# Altium schematic symbol library Passives.SchLib: 35 symbols
Pins are listed as number, name and electrical type; pins without a type are passive.

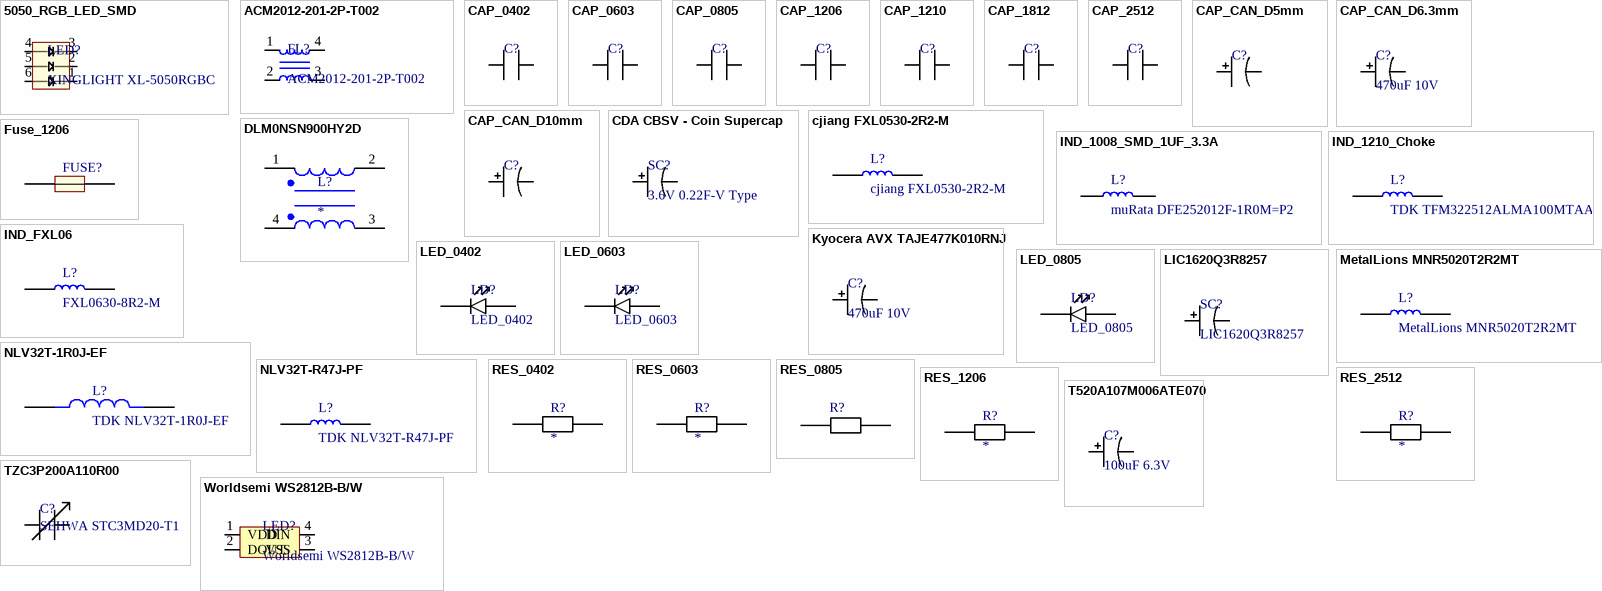
[diagram p0: symbols 5050_RGB_LED_SMD to Worldsemi WS2812B-B/W]

## 5050_RGB_LED_SMD
designator LED?, comment XINGLIGHT XL-5050RGBC
120° SMD5050-6P LED Indication - Discrete RoHS; val: XINGLIGHT XL-5050RGBC; note: *; sample link: https://www.lcsc.com/product-detail/C2843868.html?s_z=n_5050%2520led%2520rgb; unit price: $ 0.0531
footprint 5050_RGB_LED_SMD
pins: 1, 2, 3, 4, 5, 6

## ACM2012-201-2P-T002
designator FL?
2 Line Common Mode Choke Surface Mount 200 Ohms @ 100MHz 350mA DCR 250mOhm; val: ACM2012-201-2P-T002; note: *; sample link: https://www.lcsc.com/product-detail/C19972.html?s_z=n_ACM2012; unit price: $ 0.0806
footprint FIL_ACM2012-201-2P-T002
pins: 1, 2, 3, 4

## CAP_0402
designator C?
CAP_0402; note: any manufacturer
footprint CAP_0402 (Chip Capacitor, 2-Leads, Body 1,06x0,51mm, IPC Medium Density)
pins: 1, 2

## CAP_0603
designator C?  (value not drawn)
CAP_0603; note: any manufacturer; val: *
footprint CAP_0603 (Chip Capacitor, 2-Leads, Body 1,57x0,78mm, IPC Medium Density)
pins: 1, 2

## CAP_0805
designator C?  (value not drawn)
CAP_0805; note: any manufacturer; val: *
footprint CAP_0805 (Chip Capacitor, 2-Leads, Body 2,03x1,35mm, IPC Medium Density)
pins: 1, 2

## CAP_1206
designator C?  (value not drawn)
CAP_1206; note: any manufacturer; val: *
footprint CAP_1206 (Chip Capacitor, 2-Leads, Body 3,05x1,56mm, IPC Medium Density)
pins: 1, 2

## CAP_1210
designator C?  (value not drawn)
CAP_1210; note: any manufacturer; val: *
footprint CAP_1210 (Chip Capacitor, 2-Leads, Body 3,05x1,56mm, IPC Medium Density)
pins: 1, 2

## CAP_1812
designator C?  (value not drawn)
CAP_1812; note: any manufacturer; val: *
footprint CAP_1812 (Chip Capacitor, 2-Leads, Body 3,05x1,56mm, IPC Medium Density)
pins: 1, 2

## CAP_2512
designator C?  (value not drawn)
CAP_2512; note: any manufacturer; val: *
footprint CAP_2512 (Chip Capacitor, 2-Leads, Body 3,05x1,56mm, IPC Medium Density)
pins: 1, 2

## CAP_CAN_D5mm
designator C?, comment 10uf  (value not drawn)
SMD Can Capacitor; 5mm Diameter; note: any manufacturer; val: 10uf; sample link: https://www.lcsc.com/product-detail/C3357.html?s_z=n_10uF%2520SMD%2520Can%2520Capacitor%2520D5%2520RVT; unit price: $ 0.0283
footprint CAP_CAN_D5MM (Aluminum Electrolytic Capacitor, Body 5,40x5,40x5,50mm, IPC Low Density)
pins: 1, 2

## CAP_CAN_D6.3mm
designator C?, comment 470uF 10V
SMD Can Capacitor; 6.3mm Diameter; note: any manufacturer; val: 470uF 10V; sample link: https://www.lcsc.com/product-detail/C2977552.html; unit price: $ 0.0654
footprint CAP_CAN_D6.3MM
pins: 1, 2

## CAP_CAN_D10mm
designator C?, comment 47uf 100v  (value not drawn)
SMD Can Capacitor; 10mm Diameter; note: Original; val: 47uf 100v; sample link: https://www.lcsc.com/product-detail/Aluminum-Electrolytic-span-style-background-color-ff0-Capacitors-span-SMD_ROQANG-RVT2A470M1010_C335988.html; unit price: $ 0.0921
footprint CAP_CAN_D10mm (Aluminum Electrolytic Capacitor, Body 5,40x5,40x5,50mm, IPC Low Density)
pins: 1, 2

## CDA CBSV - Coin Supercap
designator SC?, comment 3.6V 0.22F-V Type
CDA CBSV Series Button/Coin Supercapacitor; val: 3.6V 0.22F-V Type; note: *; sample link: https://item.taobao.com/item.htm?id=783033798124&skuId=5349500677222&spm=a312a.7700824.w4004-25396071216.5.6b7dcd092iIvpZ; unit price: $ 0.022
footprint CDA CBSV - Coin Supercap - V Type
pins: 1, 2

## cjiang FXL0530-2R2-M
designator L?
FIXED IND 2.2uH 7A 29mΩ SMD,5.2x5.4mm; val: cjiang FXL0530-2R2-M; sample link: https://www.lcsc.com/product-detail/C177247.html?s_z=n_q_FXL0530-2R2-M&spm=wm.fly.bg.0.xh&lcsc_vid=QwBbXgVSRFJfV11VQANcX1JRFQdYVFIFEVMMBgICQlIxVlNeQlhcXlRRT1hYVDsOAxUeFF5JWBYZEEoKFBINSQcJGk4eFQsCAgIaSgADAwAHC0slQ1ZbUlVRWQkaCgg%3D; note: *; unit price: $ 0.2667
footprint IND_CD53 (Precision Wire Wound Inductor, 2-Leads, Body 4,50x4,00mm, IPC Medium Density)
pins: 1, 2

## DLM0NSN900HY2D
designator L?
2 Line Common Mode Choke Surface Mount 90 Ohms @ 100MHz 100mA DCR 5Ohm; val: DLM0NSN900HY2D; note: *; sample link: https://www.lcsc.com/product-detail/C882594.html; unit price: $ 0.0612
footprint FIL_DLM0NSN900HY2D
pins: 1, 2, 3, 4

## Fuse_1206
designator FUSE?
Fuse_1206; sample link: https://item.taobao.com/item.htm?abbucket=8&id=562837668942&ns=1&spm=a230r.1.14.1.30d440c1oWmyxt; note: https://item.taobao.com/item.htm?abbucket=8&id=562837668942&ns=1&spm=a230r.1.14.1.30d440c1oWmyxt
footprint FUSE_1206
pins: 1, 2

## IND_1008_SMD_1UF_3.3A
designator L?, comment muRata DFE252012F-1R0M=P2
3.3A 1uH 4.7A 40mΩ ±20% 1008 Fixed Inductors RoHS; val: muRata DFE252012F-1R0M=P2; note: *; sample link: https://www.lcsc.com/product-detail/C435392.html; unit price: $ 0.1775
footprint IND_1008
pins: 1, 2

## IND_1210_Choke
designator L?, comment TDK TFM322512ALMA100MTAA
Precision Wire Wound Inductor, 2-Leads, Body 4,50x4,00mm, IPC Medium Density; note: Original; val: TDK TFM322512ALMA100MTAA; sample link: https://www.lcsc.com/product-detail/C2047632.html; unit price: $ 0.7243
footprint IND_1210
pins: 1, 2

## IND_FXL06
designator L?, comment FXL0630-8R2-M
Precision Wire Wound Inductor, 2-Leads, Body 4,50x4,00mm, IPC Medium Density; note: original; val: FXL0630-8R2-M; sample link: https://www.lcsc.com/product-detail/span-style-background-color-ff0-Power-span-Inductors_cjiang-Changjiang-Microelectronics-Tech-FXL0630-8R2-M_C167222.html; unit price: $ 0.1695
footprint IND_FXL06 (Footprint not found)
pins: 1, 2

## Kyocera AVX TAJE477K010RNJ
designator C?, comment 470uF 10V
470uF ±10% 10V Tantalum Capacitors 500mΩ@100kHz CASE-E-7343-43(mm); note: Original; val: 470uF 10V; sample link: https://www.lcsc.com/product-detail/C7234.html; unit price: $ 1.4194
footprint Kyocera AVX TAJE477K010RNJ (470uF ±10% 10V Tantalum Capacitors 500mΩ@100kHz CASE-E-7343-43(mm))
pins: 1, 2

## LED_0402
designator LD?
footprint LED_0402 (Chip Capacitor, 2-Leads, Body 1,53x0,77mm, IPC Medium Density)
pins: 1, 2

## LED_0603
designator LD?
footprint LED_0603 (Chip Capacitor, 2-Leads, Body 1,53x0,77mm, IPC Medium Density)
pins: 1, 2

## LED_0805
designator LD?
footprint LED_0805
pins: 1, 2

## LIC1620Q3R8257
designator SC?
250 F (EDLC) Supercapacitor 3.8 V Radial, Can 50mOhm @ 1kHz 1000 Hrs @ 85°C; val: LIC1620Q3R8257; note: *; sample link: https://item.taobao.com/item.htm?_u=e2r4v2sjdebc&id=738986121672&skuId=5097180376418&spm=a1z09.2.0.0.75e02e8dnkHqom; unit price: $ 3.47
footprint LIC1620
pins: 1, 2

## MetalLions MNR5020T2R2MT
designator L?
2.9A 2.2uH ±20% 4A 32mΩ Magnetic Shielded Inductor SMD,5x5mm Fixed Inductors RoHS; val: MetalLions MNR5020T2R2MT; note: *; sample link: https://www.lcsc.com/product-detail/C18222052.html; unit price: $ 0.0525
footprint SMD,5x5mm (MetalLions MNR5020T2R2MT Inductor)
pins: 1, 2

## NLV32T-1R0J-EF
designator L?, comment TDK NLV32T-1R0J-EF
FIXED IND 1uH 400mA 700mΩ 1210; val: TDK NLV32T-1R0J-EF; note: *; sample link: https://www.lcsc.com/product-detail/C286755.html?s_z=n_q_NLV32T-1R0J-EF&spm=wm.fly.bg.0.xh&lcsc_vid=FVFdBVUFR1ULBQFWR1cKXlxXQwQPVFVUQFJaUFIARFkxVlNeR1JWU11UQFVXVTsOAxUeFF5JWBYZEEoKFBINSQcJGk4eFQsCAgIaSgADAwAHC0slRlBZUlJUWQkaCgg%3D; unit price: $ 0.0498
footprint INDM3225X240N
pins: 1, 2

## NLV32T-R47J-PF
designator L?, comment TDK NLV32T-R47J-PF
450mA 470nH 500mΩ Magnetic Shielded Inductor ±5% 1210 Fixed Inductors RoHS; note: Original; val: TDK NLV32T-R47J-PF; sample link: https://www.lcsc.com/product-detail/C89029.html?s_z=n_NLV32T-R47J-PF; unit price: $ 0.0653
footprint IND_1210
pins: 1, 2

## RES_0402
designator R?
RES_0402; note: any manufacturer; val: *
footprint RES_0402
pins: 1, 2

## RES_0603
designator R?
RES_0603; note: any manufacturer; val: *
footprint RES_0603
pins: 1, 2

## RES_0805
designator R?  (value not drawn)
RES_0805; note: any manufacturer; val: *
footprint RES_0805
pins: 1, 2

## RES_1206
designator R?
RES_1206; note: any manufacturer; val: *
footprint RES_1206
pins: 1, 2

## RES_2512
designator R?
RES_2512; note: any manufacturer; val: *
footprint RES_2512
pins: 1, 2

## T520A107M006ATE070
designator C?, comment 100uF 6.3V
100uF ±20% 6.3V Tantalum Capacitors 70mΩ@100kHz CASE-A-3216-18(mm); note: Original; val: 100uF 6.3V; sample link: https://www.lcsc.com/product-detail/C561794.html; unit price: $ 0.4636
footprint T520A107M006ATE070
pins: 1, 2

## TZC3P200A110R00
designator C?, comment SEHWA STC3MD20-T1
250@1MHz 5.8pF~20pF 0%~+50% 100V SMD,4.5x3.2mm Trimmers, Variable Capacitors RoHS; val: SEHWA STC3MD20-T1; sample link: https://www.lcsc.com/product-detail/C22468122.html; unit price: $ 0.4485
footprint SMD,4.5x3.2mm (300@1MHz 5pF~20pF 0%~+50% 100V SMD,4.5x3.2mm Trimmers, Variable Capacitors RoHS)
pins: 1, 2

## Worldsemi WS2812B-B/W
designator LED?
Intelligent control LED integrated light source; val: Worldsemi WS2812B-B/W; note: *; sample link: https://www.lcsc.com/product-detail/C114586.html?s_z=s_undefined_t_WS2812B&spm=wm.fly.bg.0.xh___wm.ssy.tc.1.tz&lcsc_vid=RAULBAcCRwJfVQVVFgVdUgVREQNXXlAEEwRbVVBTRAAxVlNeR1RZVlRVQFhbVTsOAxUeFF5JWBYZEEoKFBINSQcJGk4eFQsCAgIaSgADAwAHC0slQ1NdXlFXTlNADxALGw%3D%3D; price: $ 0.0981
footprint SMD5050 - WS2812B-B
pins: 1 VDD, 2 DOUT, 3 VSS, 4 DIN